# Altium integrated library Capacitor - Aluminium Polymer.IntLib: 273 symbols (part 3 of 4)
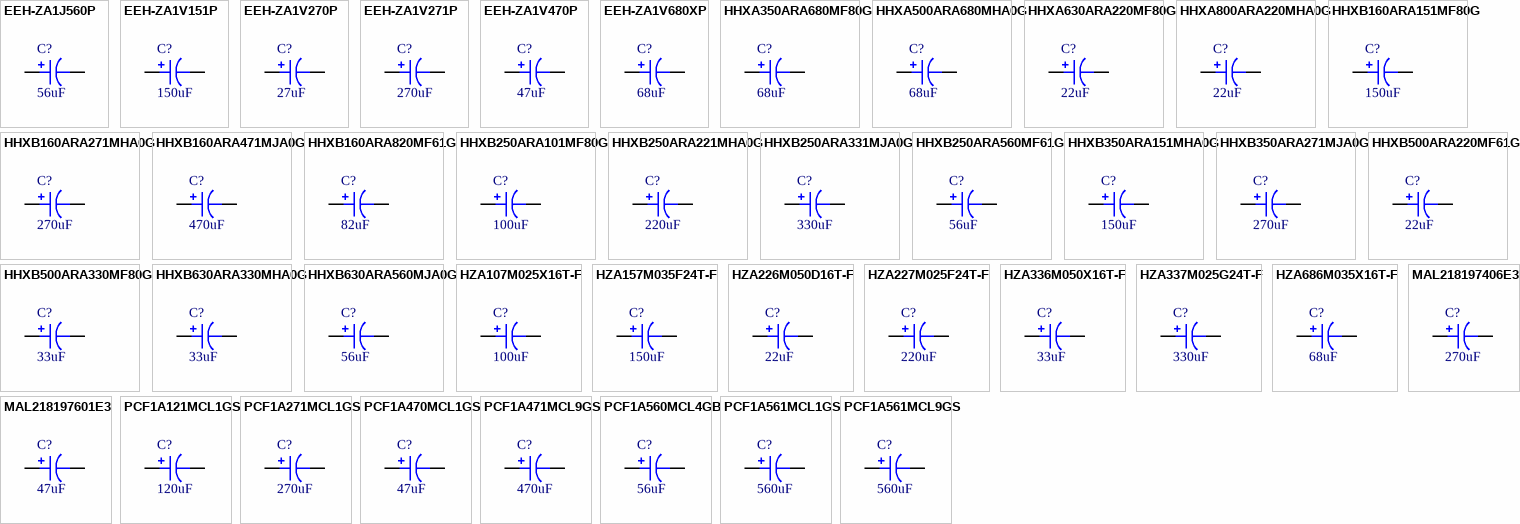
[diagram p8: symbols EEH-ZA1J560P to PCF1A561MCL9GS]

## HHXB250ARA331MJA0G
designator C?, comment 330uF
CAP POLYMER 330UF 20% 25V SMD; Part Number: HHXB250ARA331MJA0G; Manufacturer: United Chemi-Con; TemperatureRange: -55C ~ 105C; Type: General Purpose; Ripple Current: 2.5A; Lifetime @ Temp: 5000 Hrs @ 105C; Value: 330uF; PartId: 7726; Supplier 1: Digi-Key; Supplier Part Number 1: 565-4181-2-ND; ComponentLink1Description: Datasheet; ComponentLink1URL: http://www.chemi-con.co.jp/cgi-bin/CAT_DB/SEARCH/cat_db_al.cgi?e=e&j=p&pdfname=hxb; ComponentLink2Description: Digi-Key listing; ComponentLink2URL: http://digikey.com/product-detail/en/HHXB250ARA331MJA0G/565-4181-2-ND/4847422; Tolerance: 20%; Voltage: 25V; Price: 1.751; Device Package: Radial, Can - SMD; Impedance: -
footprint CAP ALUM 10.3MM
pins: 1, 2

## HHXB250ARA560MF61G
designator C?, comment 56uF
CAP POLYMER HYB 56UF 20% 25V SMD; Part Number: HHXB250ARA560MF61G; Manufacturer: United Chemi-Con; TemperatureRange: -55C ~ 105C; Type: General Purpose; Ripple Current: 1.3A; Lifetime @ Temp: 5000 Hrs @ 105C; Value: 56uF; PartId: 7521; Supplier 1: Digi-Key; Supplier Part Number 1: 565-4182-2-ND; ComponentLink1Description: Datasheet; ComponentLink1URL: http://www.chemi-con.co.jp/cgi-bin/CAT_DB/SEARCH/cat_db_al.cgi?e=e&j=p&pdfname=hxb; ComponentLink2Description: Digi-Key listing; ComponentLink2URL: http://digikey.com/product-detail/en/HHXB250ARA560MF61G/565-4182-2-ND/4847419; Tolerance: 20%; Voltage: 25V; Price: 0.6196; Device Package: Radial, Can - SMD; Impedance: -
footprint CAP ALUM 6.6MM
pins: 1, 2

## HHXB350ARA151MHA0G
designator C?, comment 150uF
CAP POLYMER 150UF 20% 35V SMD; Part Number: HHXB350ARA151MHA0G; Manufacturer: United Chemi-Con; TemperatureRange: -55C ~ 105C; Type: General Purpose; Ripple Current: 2.3A; Lifetime @ Temp: 5000 Hrs @ 105C; Value: 150uF; PartId: 7626; Supplier 1: Digi-Key; Supplier Part Number 1: 565-4183-2-ND; ComponentLink1Description: Datasheet; ComponentLink1URL: http://www.chemi-con.co.jp/cgi-bin/CAT_DB/SEARCH/cat_db_al.cgi?e=e&j=p&pdfname=hxb; ComponentLink2Description: Digi-Key listing; ComponentLink2URL: http://digikey.com/product-detail/en/HHXB350ARA151MHA0G/565-4183-2-ND/4847425; Tolerance: 20%; Voltage: 35V; Price: 1.4114; Device Package: Radial, Can - SMD; Impedance: -
footprint CAP ALUM 8.3MM
pins: 1, 2

## HHXB350ARA271MJA0G
designator C?, comment 270uF
CAP POLYMER 270UF 20% 35V SMD; Part Number: HHXB350ARA271MJA0G; Manufacturer: United Chemi-Con; TemperatureRange: -55C ~ 105C; Type: General Purpose; Ripple Current: 2.5A; Lifetime @ Temp: 5000 Hrs @ 105C; Value: 270uF; PartId: 7723; Supplier 1: Digi-Key; Supplier Part Number 1: 565-4184-2-ND; ComponentLink1Description: Datasheet; ComponentLink1URL: http://www.chemi-con.co.jp/cgi-bin/CAT_DB/SEARCH/cat_db_al.cgi?e=e&j=p&pdfname=hxb; ComponentLink2Description: Digi-Key listing; ComponentLink2URL: http://digikey.com/product-detail/en/HHXB350ARA271MJA0G/565-4184-2-ND/4847426; Tolerance: 20%; Voltage: 35V; Price: 1.751; Device Package: Radial, Can - SMD; Impedance: -
footprint CAP ALUM 10.3MM
pins: 1, 2

## HHXB500ARA220MF61G
designator C?, comment 22uF
CAP POLYMER HYB 22UF 20% 50V SMD; Part Number: HHXB500ARA220MF61G; Manufacturer: United Chemi-Con; TemperatureRange: -55C ~ 105C; Type: General Purpose; Ripple Current: 1.1A; Lifetime @ Temp: 5000 Hrs @ 105C; Value: 22uF; PartId: 7522; Supplier 1: Digi-Key; Supplier Part Number 1: 565-4188-2-ND; ComponentLink1Description: Datasheet; ComponentLink1URL: http://www.chemi-con.co.jp/cgi-bin/CAT_DB/SEARCH/cat_db_al.cgi?e=e&j=p&pdfname=hxb; ComponentLink2Description: Digi-Key listing; ComponentLink2URL: http://digikey.com/product-detail/en/HHXB500ARA220MF61G/565-4188-2-ND/4847427; Tolerance: 20%; Voltage: 50V; Price: 0.6196; Device Package: Radial, Can - SMD; Impedance: -
footprint CAP ALUM 6.6MM
pins: 1, 2

## HHXB500ARA330MF80G
designator C?, comment 33uF
CAP POLYMER HYB 33UF 20% 50V SMD; Part Number: HHXB500ARA330MF80G; Manufacturer: United Chemi-Con; TemperatureRange: -55C ~ 105C; Type: General Purpose; Ripple Current: 1.6A; Lifetime @ Temp: 5000 Hrs @ 105C; Value: 33uF; PartId: 7536; Supplier 1: Digi-Key; Supplier Part Number 1: 565-4189-2-ND; ComponentLink1Description: Datasheet; ComponentLink1URL: http://www.chemi-con.co.jp/cgi-bin/CAT_DB/SEARCH/cat_db_al.cgi?e=e&j=p&pdfname=hxb; ComponentLink2Description: Digi-Key listing; ComponentLink2URL: http://digikey.com/product-detail/en/HHXB500ARA330MF80G/565-4189-2-ND/4847428; Tolerance: 20%; Voltage: 50V; Price: 0.7872; Device Package: Radial, Can - SMD; Impedance: -
footprint CAP ALUM 6.6MM
pins: 1, 2

## HHXB630ARA330MHA0G
designator C?, comment 33uF
CAP POLYMER HYB 33UF 20% 63V SMD; Part Number: HHXB630ARA330MHA0G; Manufacturer: United Chemi-Con; TemperatureRange: -55C ~ 105C; Type: General Purpose; Ripple Current: 1.6A; Lifetime @ Temp: 5000 Hrs @ 105C; Value: 33uF; PartId: 7628; Supplier 1: Digi-Key; Supplier Part Number 1: 565-4193-2-ND; ComponentLink1Description: Datasheet; ComponentLink1URL: http://www.chemi-con.co.jp/cgi-bin/CAT_DB/SEARCH/cat_db_al.cgi?e=e&j=p&pdfname=hxb; ComponentLink2Description: Digi-Key listing; ComponentLink2URL: http://digikey.com/product-detail/en/HHXB630ARA330MHA0G/565-4193-2-ND/4847433; Tolerance: 20%; Voltage: 63V; Price: 1.4114; Device Package: Radial, Can - SMD; Impedance: -
footprint CAP ALUM 8.3MM
pins: 1, 2

## HHXB630ARA560MJA0G
designator C?, comment 56uF
CAP POLYMER HYB 56UF 20% 63V SMD; Part Number: HHXB630ARA560MJA0G; Manufacturer: United Chemi-Con; TemperatureRange: -55C ~ 105C; Type: General Purpose; Ripple Current: 1.8A; Lifetime @ Temp: 5000 Hrs @ 105C; Value: 56uF; PartId: 7724; Supplier 1: Digi-Key; Supplier Part Number 1: 565-4194-2-ND; ComponentLink1Description: Datasheet; ComponentLink1URL: http://www.chemi-con.co.jp/cgi-bin/CAT_DB/SEARCH/cat_db_al.cgi?e=e&j=p&pdfname=hxb; ComponentLink2Description: Digi-Key listing; ComponentLink2URL: http://digikey.com/product-detail/en/HHXB630ARA560MJA0G/565-4194-2-ND/4847434; Tolerance: 20%; Voltage: 63V; Price: 1.751; Device Package: Radial, Can - SMD; Impedance: -
footprint CAP ALUM 10.3MM
pins: 1, 2

## HZA107M025X16T-F
designator C?, comment 100uF
CAP POLYMER 100UF 20% 25V SMD; Part Number: HZA107M025X16T-F; Manufacturer: Cornell Dubilier Electronics (CDE); TemperatureRange: -55C ~ 105C; Type: General Purpose; Ripple Current: 220mA; Lifetime @ Temp: 10000 Hrs @ 105C; Value: 100uF; PartId: 7555; Supplier 1: Digi-Key; Supplier Part Number 1: HZA107M025X16T-FTR-ND; ComponentLink1Description: Datasheet; ComponentLink1URL: http://media.digikey.com/pdf/Data%20Sheets/Cornell%20Dubilier%20PDFs/HZA_Type.pdf; ComponentLink2Description: Digi-Key listing; ComponentLink2URL: http://digikey.com/product-detail/en/HZA107M025X16T-F/HZA107M025X16T-FTR-ND/4695416; Tolerance: 20%; Voltage: 25V; Price: 1.1833; Device Package: Radial, Can - SMD; Impedance: -
footprint CAP ALUM 6.6MM
pins: 1, 2

## HZA157M035F24T-F
designator C?, comment 150uF
CAP POLYMER 150UF 20% 35V SMD; Part Number: HZA157M035F24T-F; Manufacturer: Cornell Dubilier Electronics (CDE); TemperatureRange: -55C ~ 105C; Type: General Purpose; Ripple Current: 2.3A; Lifetime @ Temp: 10000 Hrs @ 105C; Value: 150uF; PartId: 7641; Supplier 1: Digi-Key; Supplier Part Number 1: HZA157M035F24T-FTR-ND; ComponentLink1Description: Datasheet; ComponentLink1URL: http://media.digikey.com/pdf/Data%20Sheets/Cornell%20Dubilier%20PDFs/HZA_Type.pdf; ComponentLink2Description: Digi-Key listing; ComponentLink2URL: http://digikey.com/product-detail/en/HZA157M035F24T-F/HZA157M035F24T-FTR-ND/4695421; Tolerance: 20%; Voltage: 35V; Price: 1.7441; Device Package: Radial, Can - SMD; Impedance: -
footprint CAP ALUM 8.3MM
pins: 1, 2

## HZA226M050D16T-F
designator C?, comment 22uF
CAP POLYMER 22UF 20% 50V SMD; Part Number: HZA226M050D16T-F; Manufacturer: Cornell Dubilier Electronics (CDE); TemperatureRange: -55C ~ 105C; Type: General Purpose; Ripple Current: 110mA; Lifetime @ Temp: 10000 Hrs @ 105C; Value: 22uF; PartId: 7543; Supplier 1: Digi-Key; Supplier Part Number 1: HZA226M050D16T-FTR-ND; ComponentLink1Description: Datasheet; ComponentLink1URL: http://media.digikey.com/pdf/Data%20Sheets/Cornell%20Dubilier%20PDFs/HZA_Type.pdf; ComponentLink2Description: Digi-Key listing; ComponentLink2URL: http://digikey.com/product-detail/en/HZA226M050D16T-F/HZA226M050D16T-FTR-ND/4695424; Tolerance: 20%; Voltage: 50V; Price: 0.8821; Device Package: Radial, Can - SMD; Impedance: -
footprint CAP ALUM 6.6MM
pins: 1, 2

## HZA227M025F24T-F
designator C?, comment 220uF
CAP POLYMER 220UF 20% 25V SMD; Part Number: HZA227M025F24T-F; Manufacturer: Cornell Dubilier Electronics (CDE); TemperatureRange: -55C ~ 105C; Type: General Purpose; Ripple Current: 2.3A; Lifetime @ Temp: 10000 Hrs @ 105C; Value: 220uF; PartId: 7642; Supplier 1: Digi-Key; Supplier Part Number 1: HZA227M025F24T-FTR-ND; ComponentLink1Description: Datasheet; ComponentLink1URL: http://media.digikey.com/pdf/Data%20Sheets/Cornell%20Dubilier%20PDFs/HZA_Type.pdf; ComponentLink2Description: Digi-Key listing; ComponentLink2URL: http://digikey.com/product-detail/en/HZA227M025F24T-F/HZA227M025F24T-FTR-ND/4695417; Tolerance: 20%; Voltage: 25V; Price: 1.7441; Device Package: Radial, Can - SMD; Impedance: -
footprint CAP ALUM 8.3MM
pins: 1, 2

## HZA336M050X16T-F
designator C?, comment 33uF
CAP POLYMER 33UF 20% 50V SMD; Part Number: HZA336M050X16T-F; Manufacturer: Cornell Dubilier Electronics (CDE); TemperatureRange: -55C ~ 105C; Type: General Purpose; Ripple Current: 160mA; Lifetime @ Temp: 10000 Hrs @ 105C; Value: 33uF; PartId: 7557; Supplier 1: Digi-Key; Supplier Part Number 1: HZA336M050X16T-FTR-ND; ComponentLink1Description: Datasheet; ComponentLink1URL: http://media.digikey.com/pdf/Data%20Sheets/Cornell%20Dubilier%20PDFs/HZA_Type.pdf; ComponentLink2Description: Digi-Key listing; ComponentLink2URL: http://digikey.com/product-detail/en/HZA336M050X16T-F/HZA336M050X16T-FTR-ND/4695425; Tolerance: 20%; Voltage: 50V; Price: 1.1833; Device Package: Radial, Can - SMD; Impedance: -
footprint CAP ALUM 6.6MM
pins: 1, 2

## HZA337M025G24T-F
designator C?, comment 330uF
CAP POLYMER 330UF 20% 25V SMD; Part Number: HZA337M025G24T-F; Manufacturer: Cornell Dubilier Electronics (CDE); TemperatureRange: -55C ~ 105C; Type: General Purpose; Ripple Current: 250mA; Lifetime @ Temp: 10000 Hrs @ 105C; Value: 330uF; PartId: 7740; Supplier 1: Digi-Key; Supplier Part Number 1: HZA337M025G24T-FTR-ND; ComponentLink1Description: Datasheet; ComponentLink1URL: http://media.digikey.com/pdf/Data%20Sheets/Cornell%20Dubilier%20PDFs/HZA_Type.pdf; ComponentLink2Description: Digi-Key listing; ComponentLink2URL: http://digikey.com/product-detail/en/HZA337M025G24T-F/HZA337M025G24T-FTR-ND/4695418; Tolerance: 20%; Voltage: 25V; Price: 2.0425; Device Package: Radial, Can - SMD; Impedance: -
footprint CAP ALUM 10.3MM
pins: 1, 2

## HZA686M035X16T-F
designator C?, comment 68uF
CAP POLYMER 68UF 20% 35V SMD; Part Number: HZA686M035X16T-F; Manufacturer: Cornell Dubilier Electronics (CDE); TemperatureRange: -55C ~ 105C; Type: General Purpose; Ripple Current: 2A; Lifetime @ Temp: 10000 Hrs @ 105C; Value: 68uF; PartId: 7556; Supplier 1: Digi-Key; Supplier Part Number 1: HZA686M035X16T-FTR-ND; ComponentLink1Description: Datasheet; ComponentLink1URL: http://media.digikey.com/pdf/Data%20Sheets/Cornell%20Dubilier%20PDFs/HZA_Type.pdf; ComponentLink2Description: Digi-Key listing; ComponentLink2URL: http://digikey.com/product-detail/en/HZA686M035X16T-F/HZA686M035X16T-FTR-ND/4695420; Tolerance: 20%; Voltage: 35V; Price: 1.1833; Device Package: Radial, Can - SMD; Impedance: -
footprint CAP ALUM 6.6MM
pins: 1, 2

## MAL218197406E3
designator C?, comment 270uF
CAP POLYMER 270UF 20% 10V SMD; Part Number: MAL218197406E3; Manufacturer: Vishay BC Components; TemperatureRange: -55C ~ 105C; Type: General Purpose; Ripple Current: 3.2A; Impedance: 22 mOhm; Lifetime @ Temp: 5000 Hrs @ 105C; Value: 270uF; PartId: 7603; Supplier 1: Digi-Key; Supplier Part Number 1: 4771PHTR-ND; ComponentLink1Description: Datasheet; ComponentLink1URL: http://www.vishay.com/docs/28417/181cpl.pdf; ComponentLink2Description: Digi-Key listing; ComponentLink2URL: http://digikey.com/product-detail/en/MAL218197406E3/4771PHTR-ND/5423062; Tolerance: 20%; Voltage: 10V; Price: 1.0522; Device Package: Radial, Can - SMD
footprint CAP ALUM 8.3MM
pins: 1, 2

## MAL218197601E3
designator C?, comment 47uF
CAP POLYMER 47UF 20% 25V SMD; Part Number: MAL218197601E3; Manufacturer: Vishay BC Components; TemperatureRange: -55C ~ 105C; Type: General Purpose; Ripple Current: 1.3A; Impedance: 49 mOhm; Lifetime @ Temp: 5000 Hrs @ 105C; Value: 47uF; PartId: 7546; Supplier 1: Digi-Key; Supplier Part Number 1: 4775PHTR-ND; ComponentLink1Description: Datasheet; ComponentLink1URL: http://www.vishay.com/docs/28417/181cpl.pdf; ComponentLink2Description: Digi-Key listing; ComponentLink2URL: http://digikey.com/product-detail/en/MAL218197601E3/4775PHTR-ND/5423066; Tolerance: 20%; Voltage: 25V; Price: 0.9165; Device Package: Radial, Can - SMD
footprint CAP ALUM 6.6MM
pins: 1, 2

## PCF1A121MCL1GS
designator C?, comment 120uF
CAP POLYMER 120UF 20% 10V SMD; Part Number: PCF1A121MCL1GS; Manufacturer: Nichicon; TemperatureRange: -55C ~ 105C; Type: General Purpose; Ripple Current: 3A; Lifetime @ Temp: 2000 Hrs @ 105C; Value: 120uF; PartId: 7563; Supplier 1: Digi-Key; Supplier Part Number 1: 493-2992-2-ND; ComponentLink1Description: Datasheet; ComponentLink1URL: http://nichicon-us.com/english/products/pdfs/e-cf.pdf; ComponentLink2Description: Digi-Key listing; ComponentLink2URL: http://digikey.com/product-detail/en/PCF1A121MCL1GS/493-2992-2-ND/1136082; Tolerance: 20%; Voltage: 10V; Price: 0.6474; Device Package: Radial, Can - SMD; Impedance: -
footprint CAP ALUM 8.3MM
pins: 1, 2

## PCF1A271MCL1GS
designator C?, comment 270uF
CAP POLYMER 270UF 20% 10V SMD; Part Number: PCF1A271MCL1GS; Manufacturer: Nichicon; TemperatureRange: -55C ~ 105C; Type: General Purpose; Ripple Current: 3.6A; Lifetime @ Temp: 2000 Hrs @ 105C; Value: 270uF; PartId: 7666; Supplier 1: Digi-Key; Supplier Part Number 1: 493-2995-2-ND; ComponentLink1Description: Datasheet; ComponentLink1URL: http://nichicon-us.com/english/products/pdfs/e-cf.pdf; ComponentLink2Description: Digi-Key listing; ComponentLink2URL: http://digikey.com/product-detail/en/PCF1A271MCL1GS/493-2995-2-ND/1136085; Tolerance: 20%; Voltage: 10V; Price: 0.8929; Device Package: Radial, Can - SMD; Impedance: -
footprint CAP ALUM 10.3MM
pins: 1, 2

## PCF1A470MCL1GS
designator C?, comment 47uF
CAP POLYMER 47UF 20% 10V SMD; Part Number: PCF1A470MCL1GS; Manufacturer: Nichicon; TemperatureRange: -55C ~ 105C; Type: General Purpose; Ripple Current: 2.6A; Lifetime @ Temp: 2000 Hrs @ 105C; Value: 47uF; PartId: 7513; Supplier 1: Digi-Key; Supplier Part Number 1: 493-2990-2-ND; ComponentLink1Description: Datasheet; ComponentLink1URL: http://nichicon-us.com/english/products/pdfs/e-cf.pdf; ComponentLink2Description: Digi-Key listing; ComponentLink2URL: http://digikey.com/product-detail/en/PCF1A470MCL1GS/493-2990-2-ND/1136080; Tolerance: 20%; Voltage: 10V; Price: 0.6115; Device Package: Radial, Can - SMD; Impedance: -
footprint CAP ALUM 6.6MM
pins: 1, 2

## PCF1A471MCL9GS
designator C?, comment 470uF
CAP POLYMER 470UF 20% 10V SMD; Part Number: PCF1A471MCL9GS; Manufacturer: Nichicon; TemperatureRange: -55C ~ 105C; Type: General Purpose; Ripple Current: 5.3A; Lifetime @ Temp: 2000 Hrs @ 105C; Value: 470uF; PartId: 7672; Supplier 1: Digi-Key; Supplier Part Number 1: 493-14004-2-ND; ComponentLink1Description: Datasheet; ComponentLink1URL: http://nichicon-us.com/english/products/pdfs/e-cf.pdf; ComponentLink2Description: Digi-Key listing; ComponentLink2URL: http://digikey.com/product-detail/en/PCF1A471MCL9GS/493-14004-2-ND/4991197; Tolerance: 20%; Voltage: 10V; Price: 0.9762; Device Package: Radial, Can - SMD; Impedance: -
footprint CAP ALUM 10.3MM
pins: 1, 2

## PCF1A560MCL4GB
designator C?, comment 56uF
CAP POLYMER 56UF 20% 10V SMD; Part Number: PCF1A560MCL4GB; Manufacturer: Nichicon; TemperatureRange: -55C ~ 105C; Type: General Purpose; Ripple Current: 2.5A; Lifetime @ Temp: 2000 Hrs @ 105C; Value: 56uF; PartId: 7509; Supplier 1: Digi-Key; Supplier Part Number 1: 493-14006-2-ND; ComponentLink1Description: Datasheet; ComponentLink1URL: http://nichicon-us.com/english/products/pdfs/e-cf.pdf; ComponentLink2Description: Digi-Key listing; ComponentLink2URL: http://digikey.com/product-detail/en/PCF1A560MCL4GB/493-14006-2-ND/2549405; Tolerance: 20%; Voltage: 10V; Price: 0.6013; Device Package: Radial, Can - SMD; Impedance: -
footprint CAP ALUM 6.6MM
pins: 1, 2

## PCF1A561MCL1GS
designator C?, comment 560uF
CAP POLYMER 560UF 20% 10V SMD; Part Number: PCF1A561MCL1GS; Manufacturer: Nichicon; TemperatureRange: -55C ~ 105C; Type: General Purpose; Ripple Current: 4.8A; Lifetime @ Temp: 2000 Hrs @ 105C; Value: 560uF; PartId: 7676; Supplier 1: Digi-Key; Supplier Part Number 1: 493-2997-2-ND; ComponentLink1Description: Datasheet; ComponentLink1URL: http://nichicon-us.com/english/products/pdfs/e-cf.pdf; ComponentLink2Description: Digi-Key listing; ComponentLink2URL: http://digikey.com/product-detail/en/PCF1A561MCL1GS/493-2997-2-ND/1136087; Tolerance: 20%; Voltage: 10V; Price: 1.0358; Device Package: Radial, Can - SMD; Impedance: -
footprint CAP ALUM 10.3MM
pins: 1, 2

## PCF1A561MCL9GS
designator C?, comment 560uF
CAP POLYMER ALUM 560UF 10V SMD; Part Number: PCF1A561MCL9GS; Manufacturer: Nichicon; TemperatureRange: -55C ~ 105C; Tolerance: 20%; Type: General Purpose; Ripple Current: 5.23A; Lifetime @ Temp: 2000 Hrs @ 105C; Value: 560uF; PartId: 7698; Supplier 1: Digi-Key; Supplier Part Number 1: 493-14007-2-ND; ComponentLink1Description: Datasheet; ComponentLink1URL: http://nichicon-us.com/english/products/pdfs/e-cf.pdf; ComponentLink2Description: Digi-Key listing; ComponentLink2URL: http://digikey.com/product-detail/en/PCF1A561MCL9GS/493-14007-2-ND/2333483; Voltage: 10V; Price: 1.3159; Device Package: Radial, Can - SMD; Impedance: -
footprint CAP ALUM 10.3MM
pins: 1, 2

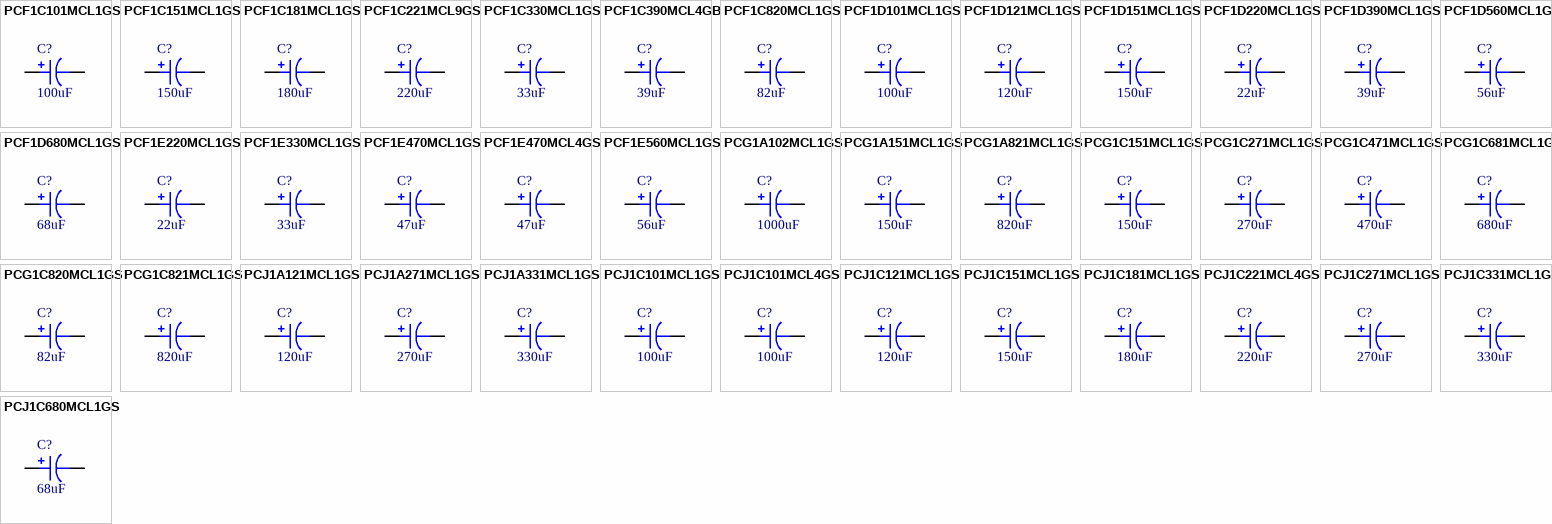
[diagram p4: symbols PCF1C101MCL1GS to PCJ1C680MCL1GS]

## PCF1C101MCL1GS
designator C?, comment 100uF
CAP POLYMER 100UF 20% 16V SMD; Part Number: PCF1C101MCL1GS; Manufacturer: Nichicon; TemperatureRange: -55C ~ 105C; Type: General Purpose; Ripple Current: 3.3A; Lifetime @ Temp: 2000 Hrs @ 105C; Value: 100uF; PartId: 7657; Supplier 1: Digi-Key; Supplier Part Number 1: 493-14009-2-ND; ComponentLink1Description: Datasheet; ComponentLink1URL: http://nichicon-us.com/english/products/pdfs/e-cf.pdf; ComponentLink2Description: Digi-Key listing; ComponentLink2URL: http://digikey.com/product-detail/en/PCF1C101MCL1GS/493-14009-2-ND/4991200; Tolerance: 20%; Voltage: 16V; Price: 0.6671; Device Package: Radial, Can - SMD; Impedance: -
footprint CAP ALUM 10.3MM
pins: 1, 2

## PCF1C151MCL1GS
designator C?, comment 150uF
CAP POLYMER 150UF 20% 16V SMD; Part Number: PCF1C151MCL1GS; Manufacturer: Nichicon; TemperatureRange: -55C ~ 105C; Type: General Purpose; Ripple Current: 3.5A; Lifetime @ Temp: 2000 Hrs @ 105C; Value: 150uF; PartId: 7664; Supplier 1: Digi-Key; Supplier Part Number 1: 493-3002-2-ND; ComponentLink1Description: Datasheet; ComponentLink1URL: http://nichicon-us.com/english/products/pdfs/e-cf.pdf; ComponentLink2Description: Digi-Key listing; ComponentLink2URL: http://digikey.com/product-detail/en/PCF1C151MCL1GS/493-3002-2-ND/1136092; Tolerance: 20%; Voltage: 16V; Price: 0.829; Device Package: Radial, Can - SMD; Impedance: -
footprint CAP ALUM 10.3MM
pins: 1, 2

## PCF1C181MCL1GS
designator C?, comment 180uF
CAP POLYMER 180UF 20% 16V SMD; Part Number: PCF1C181MCL1GS; Manufacturer: Nichicon; TemperatureRange: -55C ~ 105C; Type: General Purpose; Ripple Current: 3.6A; Lifetime @ Temp: 2000 Hrs @ 105C; Value: 180uF; PartId: 7658; Supplier 1: Digi-Key; Supplier Part Number 1: 493-14010-2-ND; ComponentLink1Description: Datasheet; ComponentLink1URL: http://nichicon-us.com/english/products/pdfs/e-cf.pdf; ComponentLink2Description: Digi-Key listing; ComponentLink2URL: http://digikey.com/product-detail/en/PCF1C181MCL1GS/493-14010-2-ND/2549406; Tolerance: 20%; Voltage: 16V; Price: 0.7256; Device Package: Radial, Can - SMD; Impedance: -
footprint CAP ALUM 10.3MM
pins: 1, 2

## PCF1C221MCL9GS
designator C?, comment 220uF
CAP POLYMER 220UF 20% 16V SMD; Part Number: PCF1C221MCL9GS; Manufacturer: Nichicon; TemperatureRange: -55C ~ 105C; Type: General Purpose; Ripple Current: 5.05A; Lifetime @ Temp: 2000 Hrs @ 105C; Value: 220uF; PartId: 7674; Supplier 1: Digi-Key; Supplier Part Number 1: 493-14013-2-ND; ComponentLink1Description: Datasheet; ComponentLink1URL: http://nichicon-us.com/english/products/pdfs/e-cf.pdf; ComponentLink2Description: Digi-Key listing; ComponentLink2URL: http://digikey.com/product-detail/en/PCF1C221MCL9GS/493-14013-2-ND/4991201; Tolerance: 20%; Voltage: 16V; Price: 0.9874; Device Package: Radial, Can - SMD; Impedance: -
footprint CAP ALUM 10.3MM
pins: 1, 2

## PCF1C330MCL1GS
designator C?, comment 33uF
CAP POLYMER 33UF 20% 16V SMD; Part Number: PCF1C330MCL1GS; Manufacturer: Nichicon; TemperatureRange: -55C ~ 105C; Type: General Purpose; Ripple Current: 2.4A; Lifetime @ Temp: 2000 Hrs @ 105C; Value: 33uF; PartId: 7523; Supplier 1: Digi-Key; Supplier Part Number 1: 493-2998-2-ND; ComponentLink1Description: Datasheet; ComponentLink1URL: http://nichicon-us.com/english/products/pdfs/e-cf.pdf; ComponentLink2Description: Digi-Key listing; ComponentLink2URL: http://digikey.com/product-detail/en/PCF1C330MCL1GS/493-2998-2-ND/1136088; Tolerance: 20%; Voltage: 16V; Price: 0.625; Device Package: Radial, Can - SMD; Impedance: -
footprint CAP ALUM 6.6MM
pins: 1, 2

## PCF1C390MCL4GB
designator C?, comment 39uF
CAP POLYMER 39UF 20% 16V SMD; Part Number: PCF1C390MCL4GB; Manufacturer: Nichicon; TemperatureRange: -55C ~ 105C; Type: General Purpose; Ripple Current: 2.4A; Lifetime @ Temp: 2000 Hrs @ 105C; Value: 39uF; PartId: 7514; Supplier 1: Digi-Key; Supplier Part Number 1: 493-14015-2-ND; ComponentLink1Description: Datasheet; ComponentLink1URL: http://nichicon-us.com/english/products/pdfs/e-cf.pdf; ComponentLink2Description: Digi-Key listing; ComponentLink2URL: http://digikey.com/product-detail/en/PCF1C390MCL4GB/493-14015-2-ND/2549410; Tolerance: 20%; Voltage: 16V; Price: 0.6132; Device Package: Radial, Can - SMD; Impedance: -
footprint CAP ALUM 6.6MM
pins: 1, 2

## PCF1C820MCL1GS
designator C?, comment 82uF
CAP POLYMER 82UF 20% 16V SMD; Part Number: PCF1C820MCL1GS; Manufacturer: Nichicon; TemperatureRange: -55C ~ 105C; Type: General Purpose; Ripple Current: 3.2A; Lifetime @ Temp: 2000 Hrs @ 105C; Value: 82uF; PartId: 7562; Supplier 1: Digi-Key; Supplier Part Number 1: 493-3001-2-ND; ComponentLink1Description: Datasheet; ComponentLink1URL: http://nichicon-us.com/english/products/pdfs/e-cf.pdf; ComponentLink2Description: Digi-Key listing; ComponentLink2URL: http://digikey.com/product-detail/en/PCF1C820MCL1GS/493-3001-2-ND/1136091; Tolerance: 20%; Voltage: 16V; Price: 0.5762; Device Package: Radial, Can - SMD; Impedance: -
footprint CAP ALUM 8.3MM
pins: 1, 2

## PCF1D101MCL1GS
designator C?, comment 100uF
CAP POLYMER 100UF 20% 20V SMD; Part Number: PCF1D101MCL1GS; Manufacturer: Nichicon; TemperatureRange: -55C ~ 105C; Type: General Purpose; Ripple Current: 3.2A; Lifetime @ Temp: 2000 Hrs @ 105C; Value: 100uF; PartId: 7610; Supplier 1: Digi-Key; Supplier Part Number 1: 493-14018-2-ND; ComponentLink1Description: Datasheet; ComponentLink1URL: http://nichicon-us.com/english/products/pdfs/e-cf.pdf; ComponentLink2Description: Digi-Key listing; ComponentLink2URL: http://digikey.com/product-detail/en/PCF1D101MCL1GS/493-14018-2-ND/2549411; Tolerance: 20%; Voltage: 20V; Price: 1.1082; Device Package: Radial, Can - SMD; Impedance: -
footprint CAP ALUM 8.3MM
pins: 1, 2

## PCF1D121MCL1GS
designator C?, comment 120uF
CAP POLYMER 120UF 20% 20V SMD; Part Number: PCF1D121MCL1GS; Manufacturer: Nichicon; TemperatureRange: -55C ~ 105C; Type: General Purpose; Ripple Current: 2.8A; Lifetime @ Temp: 2000 Hrs @ 105C; Value: 120uF; PartId: 7677; Supplier 1: Digi-Key; Supplier Part Number 1: 493-14019-2-ND; ComponentLink1Description: Datasheet; ComponentLink1URL: http://nichicon-us.com/english/products/pdfs/e-cf.pdf; ComponentLink2Description: Digi-Key listing; ComponentLink2URL: http://digikey.com/product-detail/en/PCF1D121MCL1GS/493-14019-2-ND/2549412; Tolerance: 20%; Voltage: 20V; Price: 1.0373; Device Package: Radial, Can - SMD; Impedance: -
footprint CAP ALUM 10.3MM
pins: 1, 2

## PCF1D151MCL1GS
designator C?, comment 150uF
CAP POLYMER 150UF 20% 20V SMD; Part Number: PCF1D151MCL1GS; Manufacturer: Nichicon; TemperatureRange: -55C ~ 105C; Type: General Purpose; Ripple Current: 4.32A; Lifetime @ Temp: 2000 Hrs @ 105C; Value: 150uF; PartId: 7705; Supplier 1: Digi-Key; Supplier Part Number 1: 493-11066-2-ND; ComponentLink1Description: Datasheet; ComponentLink1URL: http://nichicon-us.com/english/products/pdfs/e-cf.pdf; ComponentLink2Description: Digi-Key listing; ComponentLink2URL: http://digikey.com/product-detail/en/PCF1D151MCL1GS/493-11066-2-ND/2549413; Tolerance: 20%; Voltage: 20V; Price: 1.4171; Device Package: Radial, Can - SMD; Impedance: -
footprint CAP ALUM 10.3MM
pins: 1, 2

## PCF1D220MCL1GS
designator C?, comment 22uF
CAP POLYMER 22UF 20% 20V SMD; Part Number: PCF1D220MCL1GS; Manufacturer: Nichicon; TemperatureRange: -55C ~ 105C; Type: General Purpose; Ripple Current: 1.7A; Lifetime @ Temp: 2000 Hrs @ 105C; Value: 22uF; PartId: 7492; Supplier 1: Digi-Key; Supplier Part Number 1: 493-14020-2-ND; ComponentLink1Description: Datasheet; ComponentLink1URL: http://nichicon-us.com/english/products/pdfs/e-cf.pdf; ComponentLink2Description: Digi-Key listing; ComponentLink2URL: http://digikey.com/product-detail/en/PCF1D220MCL1GS/493-14020-2-ND/2549414; Tolerance: 20%; Voltage: 20V; Price: 0.5313; Device Package: Radial, Can - SMD; Impedance: -
footprint CAP ALUM 6.6MM
pins: 1, 2

## PCF1D390MCL1GS
designator C?, comment 39uF
CAP POLYMER 39UF 20% 20V SMD; Part Number: PCF1D390MCL1GS; Manufacturer: Nichicon; TemperatureRange: -55C ~ 105C; Type: General Purpose; Ripple Current: 2A; Lifetime @ Temp: 2000 Hrs @ 105C; Value: 39uF; PartId: 7564; Supplier 1: Digi-Key; Supplier Part Number 1: 493-14022-2-ND; ComponentLink1Description: Datasheet; ComponentLink1URL: http://nichicon-us.com/english/products/pdfs/e-cf.pdf; ComponentLink2Description: Digi-Key listing; ComponentLink2URL: http://digikey.com/product-detail/en/PCF1D390MCL1GS/493-14022-2-ND/2549416; Tolerance: 20%; Voltage: 20V; Price: 0.6904; Device Package: Radial, Can - SMD; Impedance: -
footprint CAP ALUM 8.3MM
pins: 1, 2

## PCF1D560MCL1GS
designator C?, comment 56uF
CAP POLYMER 56UF 20% 20V SMD; Part Number: PCF1D560MCL1GS; Manufacturer: Nichicon; TemperatureRange: -55C ~ 105C; Type: General Purpose; Ripple Current: 2.4A; Lifetime @ Temp: 2000 Hrs @ 105C; Value: 56uF; PartId: 7662; Supplier 1: Digi-Key; Supplier Part Number 1: 493-14024-2-ND; ComponentLink1Description: Datasheet; ComponentLink1URL: http://nichicon-us.com/english/products/pdfs/e-cf.pdf; ComponentLink2Description: Digi-Key listing; ComponentLink2URL: http://digikey.com/product-detail/en/PCF1D560MCL1GS/493-14024-2-ND/2549418; Tolerance: 20%; Voltage: 20V; Price: 0.7995; Device Package: Radial, Can - SMD; Impedance: -
footprint CAP ALUM 10.3MM
pins: 1, 2

## PCF1D680MCL1GS
designator C?, comment 68uF
CAP POLYMER 68UF 20% 20V SMD; Part Number: PCF1D680MCL1GS; Manufacturer: Nichicon; TemperatureRange: -55C ~ 105C; Type: General Purpose; Ripple Current: 2.6A; Lifetime @ Temp: 2000 Hrs @ 105C; Value: 68uF; PartId: 7665; Supplier 1: Digi-Key; Supplier Part Number 1: 493-14025-2-ND; ComponentLink1Description: Datasheet; ComponentLink1URL: http://nichicon-us.com/english/products/pdfs/e-cf.pdf; ComponentLink2Description: Digi-Key listing; ComponentLink2URL: http://digikey.com/product-detail/en/PCF1D680MCL1GS/493-14025-2-ND/2549419; Tolerance: 20%; Voltage: 20V; Price: 0.8861; Device Package: Radial, Can - SMD; Impedance: -
footprint CAP ALUM 10.3MM
pins: 1, 2

## PCF1E220MCL1GS
designator C?, comment 22uF
CAP POLYMER 22UF 20% 25V SMD; Part Number: PCF1E220MCL1GS; Manufacturer: Nichicon; TemperatureRange: -55C ~ 105C; Type: General Purpose; Ripple Current: 2.2A; Lifetime @ Temp: 2000 Hrs @ 105C; Value: 22uF; PartId: 7660; Supplier 1: Digi-Key; Supplier Part Number 1: 493-14028-2-ND; ComponentLink1Description: Datasheet; ComponentLink1URL: http://nichicon-us.com/english/products/pdfs/e-cf.pdf; ComponentLink2Description: Digi-Key listing; ComponentLink2URL: http://digikey.com/product-detail/en/PCF1E220MCL1GS/493-14028-2-ND/2549422; Tolerance: 20%; Voltage: 25V; Price: 0.7552; Device Package: Radial, Can - SMD; Impedance: -
footprint CAP ALUM 10.3MM
pins: 1, 2

## PCF1E330MCL1GS
designator C?, comment 33uF
CAP POLYMER 33UF 20% 25V SMD; Part Number: PCF1E330MCL1GS; Manufacturer: Nichicon; TemperatureRange: -55C ~ 105C; Type: General Purpose; Ripple Current: 2.8A; Lifetime @ Temp: 2000 Hrs @ 105C; Value: 33uF; PartId: 7593; Supplier 1: Digi-Key; Supplier Part Number 1: 493-14029-2-ND; ComponentLink1Description: Datasheet; ComponentLink1URL: http://nichicon-us.com/english/products/pdfs/e-cf.pdf; ComponentLink2Description: Digi-Key listing; ComponentLink2URL: http://digikey.com/product-detail/en/PCF1E330MCL1GS/493-14029-2-ND/2549423; Tolerance: 20%; Voltage: 25V; Price: 0.9206; Device Package: Radial, Can - SMD; Impedance: -
footprint CAP ALUM 8.3MM
pins: 1, 2

## PCF1E470MCL1GS
designator C?, comment 47uF
CAP POLYMER 47UF 20% 25V SMD; Part Number: PCF1E470MCL1GS; Manufacturer: Nichicon; TemperatureRange: -55C ~ 105C; Type: General Purpose; Ripple Current: 2.4A; Lifetime @ Temp: 2000 Hrs @ 105C; Value: 47uF; PartId: 7675; Supplier 1: Digi-Key; Supplier Part Number 1: 493-13412-2-ND; ComponentLink1Description: Datasheet; ComponentLink1URL: http://nichicon-us.com/english/products/pdfs/e-cf.pdf; ComponentLink2Description: Digi-Key listing; ComponentLink2URL: http://digikey.com/product-detail/en/PCF1E470MCL1GS/493-13412-2-ND/2549424; Tolerance: 20%; Voltage: 25V; Price: 1.0122; Device Package: Radial, Can - SMD; Impedance: -
footprint CAP ALUM 10.3MM
pins: 1, 2

## PCF1E470MCL4GS
designator C?, comment 47uF
CAP POLYMER 47UF 20% 25V SMD; Part Number: PCF1E470MCL4GS; Manufacturer: Nichicon; TemperatureRange: -55C ~ 105C; Type: General Purpose; Ripple Current: 3A; Lifetime @ Temp: 2000 Hrs @ 105C; Value: 47uF; PartId: 7615; Supplier 1: Digi-Key; Supplier Part Number 1: 493-14030-2-ND; ComponentLink1Description: Datasheet; ComponentLink1URL: http://nichicon-us.com/english/products/pdfs/e-cf.pdf; ComponentLink2Description: Digi-Key listing; ComponentLink2URL: http://digikey.com/product-detail/en/PCF1E470MCL4GS/493-14030-2-ND/2549425; Tolerance: 20%; Voltage: 25V; Price: 1.1601; Device Package: Radial, Can - SMD; Impedance: -
footprint CAP ALUM 8.3MM
pins: 1, 2

## PCF1E560MCL1GS
designator C?, comment 56uF
CAP POLYMER 56UF 20% 25V SMD; Part Number: PCF1E560MCL1GS; Manufacturer: Nichicon; TemperatureRange: -55C ~ 105C; Type: General Purpose; Ripple Current: 3.8A; Lifetime @ Temp: 2000 Hrs @ 105C; Value: 56uF; PartId: 7685; Supplier 1: Digi-Key; Supplier Part Number 1: 493-11065-2-ND; ComponentLink1Description: Datasheet; ComponentLink1URL: http://nichicon-us.com/english/products/pdfs/e-cf.pdf; ComponentLink2Description: Digi-Key listing; ComponentLink2URL: http://digikey.com/product-detail/en/PCF1E560MCL1GS/493-11065-2-ND/2549426; Tolerance: 20%; Voltage: 25V; Price: 1.1908; Device Package: Radial, Can - SMD; Impedance: -
footprint CAP ALUM 10.3MM
pins: 1, 2

## PCG1A102MCL1GS
designator C?, comment 1000uF
CAP POLYMER 1000UF 20% 10V SMD; Part Number: PCG1A102MCL1GS; Manufacturer: Nichicon; TemperatureRange: -55C ~ 105C; Ripple Current: 4.8A; Lifetime @ Temp: 2000 Hrs @ 105C; Value: 1000uF; PartId: 7707; Supplier 1: Digi-Key; Supplier Part Number 1: 493-3094-2-ND; ComponentLink1Description: Datasheet; ComponentLink1URL: http://nichicon-us.com/english/products/pdfs/e-cg.pdf; ComponentLink2Description: Digi-Key listing; ComponentLink2URL: http://digikey.com/product-detail/en/PCG1A102MCL1GS/493-3094-2-ND/1662480; Tolerance: 20%; Voltage: 10V; Price: 1.4598; Type: -; Device Package: Radial, Can - SMD; Impedance: -
footprint CAP ALUM 10.3MM
pins: 1, 2

## PCG1A151MCL1GS
designator C?, comment 150uF
CAP POLYMER 150UF 20% 10V SMD; Part Number: PCG1A151MCL1GS; Manufacturer: Nichicon; TemperatureRange: -55C ~ 105C; Ripple Current: 2.5A; Lifetime @ Temp: 2000 Hrs @ 105C; Value: 150uF; PartId: 7537; Supplier 1: Digi-Key; Supplier Part Number 1: 493-3090-2-ND; ComponentLink1Description: Datasheet; ComponentLink1URL: http://nichicon-us.com/english/products/pdfs/e-cg.pdf; ComponentLink2Description: Digi-Key listing; ComponentLink2URL: http://digikey.com/product-detail/en/PCG1A151MCL1GS/493-3090-2-ND/1662476; Tolerance: 20%; Voltage: 10V; Price: 0.7963; Type: -; Device Package: Radial, Can - SMD; Impedance: -
footprint CAP ALUM 6.6MM
pins: 1, 2

## PCG1A821MCL1GS
designator C?, comment 820uF
CAP POLYMER 820UF 20% 10V SMD; Part Number: PCG1A821MCL1GS; Manufacturer: Nichicon; TemperatureRange: -55C ~ 105C; Ripple Current: 4.3A; Lifetime @ Temp: 2000 Hrs @ 105C; Value: 820uF; PartId: 7688; Supplier 1: Digi-Key; Supplier Part Number 1: 493-3093-2-ND; ComponentLink1Description: Datasheet; ComponentLink1URL: http://nichicon-us.com/english/products/pdfs/e-cg.pdf; ComponentLink2Description: Digi-Key listing; ComponentLink2URL: http://digikey.com/product-detail/en/PCG1A821MCL1GS/493-3093-2-ND/1662479; Tolerance: 20%; Voltage: 10V; Price: 1.206; Type: -; Device Package: Radial, Can - SMD; Impedance: -
footprint CAP ALUM 10.3MM
pins: 1, 2

## PCG1C151MCL1GS
designator C?, comment 150uF
CAP POLYMER 150UF 20% 16V SMD; Part Number: PCG1C151MCL1GS; Manufacturer: Nichicon; TemperatureRange: -55C ~ 105C; Ripple Current: 2.8A; Lifetime @ Temp: 2000 Hrs @ 105C; Value: 150uF; PartId: 7596; Supplier 1: Digi-Key; Supplier Part Number 1: 493-3097-2-ND; ComponentLink1Description: Datasheet; ComponentLink1URL: http://nichicon-us.com/english/products/pdfs/e-cg.pdf; ComponentLink2Description: Digi-Key listing; ComponentLink2URL: http://digikey.com/product-detail/en/PCG1C151MCL1GS/493-3097-2-ND/1662483; Tolerance: 20%; Voltage: 16V; Price: 0.9436; Type: -; Device Package: Radial, Can - SMD; Impedance: -
footprint CAP ALUM 8.3MM
pins: 1, 2

## PCG1C271MCL1GS
designator C?, comment 270uF
CAP POLYMER 270UF 20% 16V SMD; Part Number: PCG1C271MCL1GS; Manufacturer: Nichicon; TemperatureRange: -55C ~ 105C; Ripple Current: 3.3A; Lifetime @ Temp: 2000 Hrs @ 105C; Value: 270uF; PartId: 7682; Supplier 1: Digi-Key; Supplier Part Number 1: 493-3098-2-ND; ComponentLink1Description: Datasheet; ComponentLink1URL: http://nichicon-us.com/english/products/pdfs/e-cg.pdf; ComponentLink2Description: Digi-Key listing; ComponentLink2URL: http://digikey.com/product-detail/en/PCG1C271MCL1GS/493-3098-2-ND/1662484; Tolerance: 20%; Voltage: 16V; Price: 1.1806; Type: -; Device Package: Radial, Can - SMD; Impedance: -
footprint CAP ALUM 10.3MM
pins: 1, 2

## PCG1C471MCL1GS
designator C?, comment 470uF
CAP POLYMER 470UF 20% 16V SMD; Part Number: PCG1C471MCL1GS; Manufacturer: Nichicon; TemperatureRange: -55C ~ 105C; Ripple Current: 3.7A; Lifetime @ Temp: 2000 Hrs @ 105C; Value: 470uF; PartId: 7687; Supplier 1: Digi-Key; Supplier Part Number 1: 493-3099-2-ND; ComponentLink1Description: Datasheet; ComponentLink1URL: http://nichicon-us.com/english/products/pdfs/e-cg.pdf; ComponentLink2Description: Digi-Key listing; ComponentLink2URL: http://digikey.com/product-detail/en/PCG1C471MCL1GS/493-3099-2-ND/1662485; Tolerance: 20%; Voltage: 16V; Price: 1.206; Type: -; Device Package: Radial, Can - SMD; Impedance: -
footprint CAP ALUM 10.3MM
pins: 1, 2

## PCG1C681MCL1GS
designator C?, comment 680uF
CAP POLYMER 680UF 20% 16V SMD; Part Number: PCG1C681MCL1GS; Manufacturer: Nichicon; TemperatureRange: -55C ~ 105C; Ripple Current: 4.1A; Lifetime @ Temp: 2000 Hrs @ 105C; Value: 680uF; PartId: 7706; Supplier 1: Digi-Key; Supplier Part Number 1: 493-3100-2-ND; ComponentLink1Description: Datasheet; ComponentLink1URL: http://nichicon-us.com/english/products/pdfs/e-cg.pdf; ComponentLink2Description: Digi-Key listing; ComponentLink2URL: http://digikey.com/product-detail/en/PCG1C681MCL1GS/493-3100-2-ND/1662486; Tolerance: 20%; Voltage: 16V; Price: 1.4598; Type: -; Device Package: Radial, Can - SMD; Impedance: -
footprint CAP ALUM 10.3MM
pins: 1, 2

## PCG1C820MCL1GS
designator C?, comment 82uF
CAP POLYMER 82UF 20% 16V SMD; Part Number: PCG1C820MCL1GS; Manufacturer: Nichicon; TemperatureRange: -55C ~ 105C; Ripple Current: 2.3A; Lifetime @ Temp: 2000 Hrs @ 105C; Value: 82uF; PartId: 7538; Supplier 1: Digi-Key; Supplier Part Number 1: 493-3096-2-ND; ComponentLink1Description: Datasheet; ComponentLink1URL: http://nichicon-us.com/english/products/pdfs/e-cg.pdf; ComponentLink2Description: Digi-Key listing; ComponentLink2URL: http://digikey.com/product-detail/en/PCG1C820MCL1GS/493-3096-2-ND/1662482; Tolerance: 20%; Voltage: 16V; Price: 0.7963; Type: -; Device Package: Radial, Can - SMD; Impedance: -
footprint CAP ALUM 6.6MM
pins: 1, 2

## PCG1C821MCL1GS
designator C?, comment 820uF
CAP POLYMER 820UF 20% 16V SMD; Part Number: PCG1C821MCL1GS; Manufacturer: Nichicon; TemperatureRange: -55C ~ 105C; Ripple Current: 4.2A; Lifetime @ Temp: 2000 Hrs @ 105C; Value: 820uF; PartId: 7718; Supplier 1: Digi-Key; Supplier Part Number 1: 493-4594-2-ND; ComponentLink1Description: Datasheet; ComponentLink1URL: http://nichicon-us.com/english/products/pdfs/e-cg.pdf; ComponentLink2Description: Digi-Key listing; ComponentLink2URL: http://digikey.com/product-detail/en/PCG1C821MCL1GS/493-4594-2-ND/2786820; Tolerance: 20%; Voltage: 16V; Price: 1.6802; Type: -; Device Package: Radial, Can - SMD; Impedance: -
footprint CAP ALUM 10.3MM
pins: 1, 2

## PCJ1A121MCL1GS
designator C?, comment 120uF
CAP POLYMER 120UF 20% 10V SMD; Part Number: PCJ1A121MCL1GS; Manufacturer: Nichicon; TemperatureRange: -55C ~ 105C; Type: General Purpose; Ripple Current: 2.53A; Lifetime @ Temp: 2000 Hrs @ 105C; Value: 120uF; PartId: 7531; Supplier 1: Digi-Key; Supplier Part Number 1: 493-3048-2-ND; ComponentLink1Description: Datasheet; ComponentLink1URL: http://nichicon-us.com/english/products/pdfs/e-p_cj.pdf; ComponentLink2Description: Digi-Key listing; ComponentLink2URL: http://digikey.com/product-detail/en/PCJ1A121MCL1GS/493-3048-2-ND/1662434; Tolerance: 20%; Voltage: 10V; Price: 0.7242; Device Package: Radial, Can - SMD; Impedance: -
footprint CAP ALUM 6.6MM
pins: 1, 2

## PCJ1A271MCL1GS
designator C?, comment 270uF
CAP POLYMER 270UF 20% 10V SMD; Part Number: PCJ1A271MCL1GS; Manufacturer: Nichicon; TemperatureRange: -55C ~ 105C; Type: General Purpose; Ripple Current: 3.22A; Lifetime @ Temp: 2000 Hrs @ 105C; Value: 270uF; PartId: 7591; Supplier 1: Digi-Key; Supplier Part Number 1: 493-3049-2-ND; ComponentLink1Description: Datasheet; ComponentLink1URL: http://nichicon-us.com/english/products/pdfs/e-p_cj.pdf; ComponentLink2Description: Digi-Key listing; ComponentLink2URL: http://digikey.com/product-detail/en/PCJ1A271MCL1GS/493-3049-2-ND/1662435; Tolerance: 20%; Voltage: 10V; Price: 0.898; Device Package: Radial, Can - SMD; Impedance: -
footprint CAP ALUM 8.3MM
pins: 1, 2

## PCJ1A331MCL1GS
designator C?, comment 330uF
CAP POLYMER 330UF 20% 10V SMD; Part Number: PCJ1A331MCL1GS; Manufacturer: Nichicon; TemperatureRange: -55C ~ 105C; Type: General Purpose; Ripple Current: 3.39A; Lifetime @ Temp: 2000 Hrs @ 105C; Value: 330uF; PartId: 7581; Supplier 1: Digi-Key; Supplier Part Number 1: 493-14054-2-ND; ComponentLink1Description: Datasheet; ComponentLink1URL: http://nichicon-us.com/english/products/pdfs/e-p_cj.pdf; ComponentLink2Description: Digi-Key listing; ComponentLink2URL: http://digikey.com/product-detail/en/PCJ1A331MCL1GS/493-14054-2-ND/2549449; Tolerance: 20%; Voltage: 10V; Price: 0.8383; Device Package: Radial, Can - SMD; Impedance: -
footprint CAP ALUM 8.3MM
pins: 1, 2

## PCJ1C101MCL1GS
designator C?, comment 100uF
CAP POLYMER 100UF 20% 16V SMD; Part Number: PCJ1C101MCL1GS; Manufacturer: Nichicon; TemperatureRange: -55C ~ 105C; Type: General Purpose; Ripple Current: 3.01A; Lifetime @ Temp: 2000 Hrs @ 105C; Value: 100uF; PartId: 7573; Supplier 1: Digi-Key; Supplier Part Number 1: 493-13413-2-ND; ComponentLink1Description: Datasheet; ComponentLink1URL: http://nichicon-us.com/english/products/pdfs/e-p_cj.pdf; ComponentLink2Description: Digi-Key listing; ComponentLink2URL: http://digikey.com/product-detail/en/PCJ1C101MCL1GS/493-13413-2-ND/2549452; Tolerance: 20%; Voltage: 16V; Price: 0.7242; Device Package: Radial, Can - SMD; Impedance: -
footprint CAP ALUM 8.3MM
pins: 1, 2

## PCJ1C101MCL4GS
designator C?, comment 100uF
CAP POLYMER 100UF 20% 16V SMD; Part Number: PCJ1C101MCL4GS; Manufacturer: Nichicon; TemperatureRange: -55C ~ 105C; Type: General Purpose; Ripple Current: 2.7A; Lifetime @ Temp: 2000 Hrs @ 105C; Value: 100uF; PartId: 7533; Supplier 1: Digi-Key; Supplier Part Number 1: 493-14058-2-ND; ComponentLink1Description: Datasheet; ComponentLink1URL: http://nichicon-us.com/english/products/pdfs/e-p_cj.pdf; ComponentLink2Description: Digi-Key listing; ComponentLink2URL: http://digikey.com/product-detail/en/PCJ1C101MCL4GS/493-14058-2-ND/2549453; Tolerance: 20%; Voltage: 16V; Price: 0.7525; Device Package: Radial, Can - SMD; Impedance: -
footprint CAP ALUM 6.6MM
pins: 1, 2

## PCJ1C121MCL1GS
designator C?, comment 120uF
CAP POLYMER 120UF 20% 16V SMD; Part Number: PCJ1C121MCL1GS; Manufacturer: Nichicon; TemperatureRange: -55C ~ 105C; Type: General Purpose; Ripple Current: 3.01A; Lifetime @ Temp: 2000 Hrs @ 105C; Value: 120uF; PartId: 7590; Supplier 1: Digi-Key; Supplier Part Number 1: 493-3054-2-ND; ComponentLink1Description: Datasheet; ComponentLink1URL: http://nichicon-us.com/english/products/pdfs/e-p_cj.pdf; ComponentLink2Description: Digi-Key listing; ComponentLink2URL: http://digikey.com/product-detail/en/PCJ1C121MCL1GS/493-3054-2-ND/1662440; Tolerance: 20%; Voltage: 16V; Price: 0.898; Device Package: Radial, Can - SMD; Impedance: -
footprint CAP ALUM 8.3MM
pins: 1, 2

## PCJ1C151MCL1GS
designator C?, comment 150uF
CAP POLYMER 150UF 20% 16V SMD; Part Number: PCJ1C151MCL1GS; Manufacturer: Nichicon; TemperatureRange: -55C ~ 105C; Type: General Purpose; Ripple Current: 3.15A; Lifetime @ Temp: 2000 Hrs @ 105C; Value: 150uF; PartId: 7580; Supplier 1: Digi-Key; Supplier Part Number 1: 493-14059-2-ND; ComponentLink1Description: Datasheet; ComponentLink1URL: http://nichicon-us.com/english/products/pdfs/e-p_cj.pdf; ComponentLink2Description: Digi-Key listing; ComponentLink2URL: http://digikey.com/product-detail/en/PCJ1C151MCL1GS/493-14059-2-ND/2549454; Tolerance: 20%; Voltage: 16V; Price: 0.8383; Device Package: Radial, Can - SMD; Impedance: -
footprint CAP ALUM 8.3MM
pins: 1, 2

## PCJ1C181MCL1GS
designator C?, comment 180uF
CAP POLYMER 180UF 20% 16V SMD; Part Number: PCJ1C181MCL1GS; Manufacturer: Nichicon; TemperatureRange: -55C ~ 105C; Type: General Purpose; Ripple Current: 3.89A; Lifetime @ Temp: 2000 Hrs @ 105C; Value: 180uF; PartId: 7586; Supplier 1: Digi-Key; Supplier Part Number 1: 493-14060-2-ND; ComponentLink1Description: Datasheet; ComponentLink1URL: http://nichicon-us.com/english/products/pdfs/e-p_cj.pdf; ComponentLink2Description: Digi-Key listing; ComponentLink2URL: http://digikey.com/product-detail/en/PCJ1C181MCL1GS/493-14060-2-ND/2549455; Tolerance: 20%; Voltage: 16V; Price: 0.8907; Device Package: Radial, Can - SMD; Impedance: -
footprint CAP ALUM 8.3MM
pins: 1, 2

## PCJ1C221MCL4GS
designator C?, comment 220uF
CAP POLYMER 220UF 20% 16V SMD; Part Number: PCJ1C221MCL4GS; Manufacturer: Nichicon; TemperatureRange: -55C ~ 105C; Type: General Purpose; Ripple Current: 3.89A; Lifetime @ Temp: 2000 Hrs @ 105C; Value: 220uF; PartId: 7609; Supplier 1: Digi-Key; Supplier Part Number 1: 493-14061-2-ND; ComponentLink1Description: Datasheet; ComponentLink1URL: http://nichicon-us.com/english/products/pdfs/e-p_cj.pdf; ComponentLink2Description: Digi-Key listing; ComponentLink2URL: http://digikey.com/product-detail/en/PCJ1C221MCL4GS/493-14061-2-ND/2549456; Tolerance: 20%; Voltage: 16V; Price: 1.0938; Device Package: Radial, Can - SMD; Impedance: -
footprint CAP ALUM 8.3MM
pins: 1, 2

## PCJ1C271MCL1GS
designator C?, comment 270uF
CAP POLYMER 270UF 20% 16V SMD; Part Number: PCJ1C271MCL1GS; Manufacturer: Nichicon; TemperatureRange: -55C ~ 105C; Type: General Purpose; Ripple Current: 4.07A; Lifetime @ Temp: 2000 Hrs @ 105C; Value: 270uF; PartId: 7612; Supplier 1: Digi-Key; Supplier Part Number 1: 493-14062-2-ND; ComponentLink1Description: Datasheet; ComponentLink1URL: http://nichicon-us.com/english/products/pdfs/e-p_cj.pdf; ComponentLink2Description: Digi-Key listing; ComponentLink2URL: http://digikey.com/product-detail/en/PCJ1C271MCL1GS/493-14062-2-ND/4991206; Tolerance: 20%; Voltage: 16V; Price: 1.1191; Device Package: Radial, Can - SMD; Impedance: -
footprint CAP ALUM 8.3MM
pins: 1, 2

## PCJ1C331MCL1GS
designator C?, comment 330uF
CAP POLYMER 330UF 20% 16V SMD; Part Number: PCJ1C331MCL1GS; Manufacturer: Nichicon; TemperatureRange: -55C ~ 105C; Type: General Purpose; Ripple Current: 4.35A; Lifetime @ Temp: 2000 Hrs @ 105C; Value: 330uF; PartId: 7681; Supplier 1: Digi-Key; Supplier Part Number 1: 493-3056-2-ND; ComponentLink1Description: Datasheet; ComponentLink1URL: http://nichicon-us.com/english/products/pdfs/e-p_cj.pdf; ComponentLink2Description: Digi-Key listing; ComponentLink2URL: http://digikey.com/product-detail/en/PCJ1C331MCL1GS/493-3056-2-ND/1662442; Tolerance: 20%; Voltage: 16V; Price: 1.166; Device Package: Radial, Can - SMD; Impedance: -
footprint CAP ALUM 10.3MM
pins: 1, 2

## PCJ1C680MCL1GS
designator C?, comment 68uF
CAP POLYMER 68UF 20% 16V SMD; Part Number: PCJ1C680MCL1GS; Manufacturer: Nichicon; TemperatureRange: -55C ~ 105C; Type: General Purpose; Ripple Current: 2.39A; Lifetime @ Temp: 2000 Hrs @ 105C; Value: 68uF; PartId: 7532; Supplier 1: Digi-Key; Supplier Part Number 1: 493-3053-2-ND; ComponentLink1Description: Datasheet; ComponentLink1URL: http://nichicon-us.com/english/products/pdfs/e-p_cj.pdf; ComponentLink2Description: Digi-Key listing; ComponentLink2URL: http://digikey.com/product-detail/en/PCJ1C680MCL1GS/493-3053-2-ND/1662439; Tolerance: 20%; Voltage: 16V; Price: 0.7242; Device Package: Radial, Can - SMD; Impedance: -
footprint CAP ALUM 6.6MM
pins: 1, 2

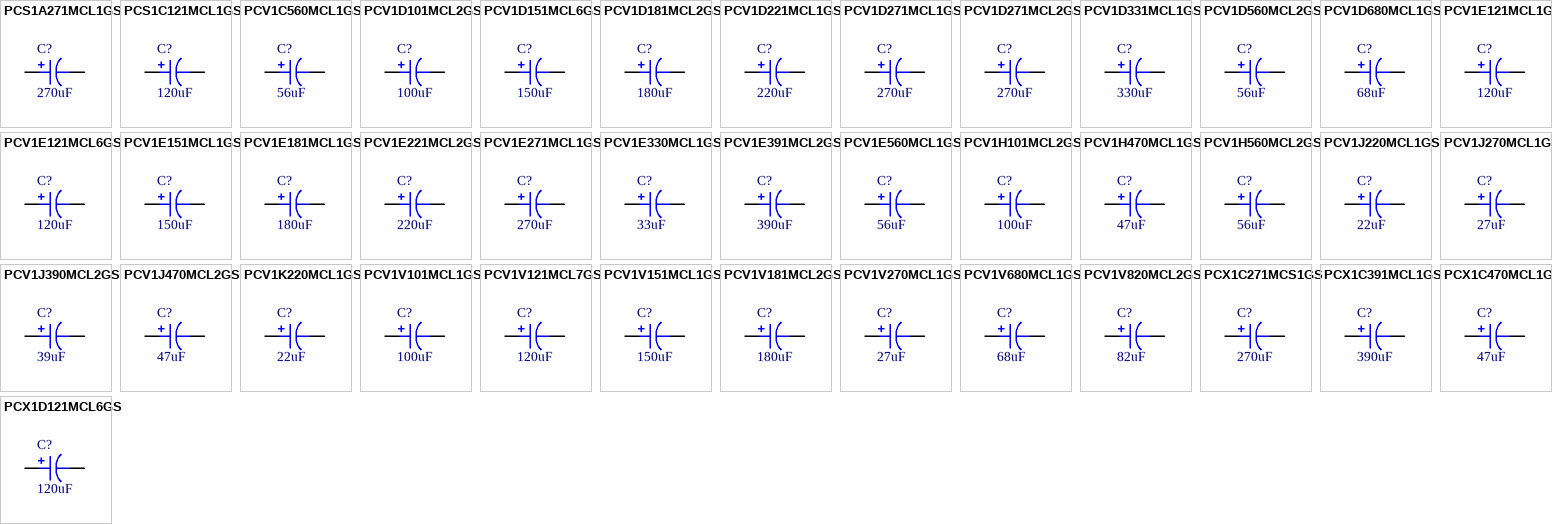
[diagram p5: symbols PCS1A271MCL1GS to PCX1D121MCL6GS]

## PCS1A271MCL1GS
designator C?, comment 270uF
CAP POLYMER 270UF 20% 10V SMD; Part Number: PCS1A271MCL1GS; Manufacturer: Nichicon; TemperatureRange: -55C ~ 105C; Ripple Current: 3.2A; Lifetime @ Temp: 5000 Hrs @ 105C; Value: 270uF; PartId: 7574; Supplier 1: Digi-Key; Supplier Part Number 1: 493-3978-2-ND; ComponentLink1Description: Datasheet; ComponentLink1URL: http://nichicon-us.com/english/products/pdfs/e-p_cs.pdf; ComponentLink2Description: Digi-Key listing; ComponentLink2URL: http://digikey.com/product-detail/en/PCS1A271MCL1GS/493-3978-2-ND/2327051; Tolerance: 20%; Voltage: 10V; Price: 0.7253; Type: -; Device Package: Radial, Can - SMD; Impedance: -
footprint CAP ALUM 8.3MM
pins: 1, 2

## PCS1C121MCL1GS
designator C?, comment 120uF
CAP POLYMER 120UF 20% 16V SMD; Part Number: PCS1C121MCL1GS; Manufacturer: Nichicon; TemperatureRange: -55C ~ 105C; Ripple Current: 2.8A; Lifetime @ Temp: 5000 Hrs @ 105C; Value: 120uF; PartId: 7568; Supplier 1: Digi-Key; Supplier Part Number 1: 493-3984-2-ND; ComponentLink1Description: Datasheet; ComponentLink1URL: http://nichicon-us.com/english/products/pdfs/e-p_cs.pdf; ComponentLink2Description: Digi-Key listing; ComponentLink2URL: http://digikey.com/product-detail/en/PCS1C121MCL1GS/493-3984-2-ND/2327057; Tolerance: 20%; Voltage: 16V; Price: 0.7199; Type: -; Device Package: Radial, Can - SMD; Impedance: -
footprint CAP ALUM 8.3MM
pins: 1, 2

## PCV1C560MCL1GS
designator C?, comment 56uF
CAP POLYMER 56UF 20% 16V SMD; Part Number: PCV1C560MCL1GS; Manufacturer: Nichicon; TemperatureRange: -55C ~ 105C; Ripple Current: 1A; Lifetime @ Temp: 3000 Hrs @ 105C; Value: 56uF; PartId: 7527; Supplier 1: Digi-Key; Supplier Part Number 1: 493-4362-2-ND; ComponentLink1Description: Datasheet; ComponentLink1URL: http://nichicon-us.com/english/products/pdfs/e-cv.pdf; ComponentLink2Description: Digi-Key listing; ComponentLink2URL: http://digikey.com/product-detail/en/PCV1C560MCL1GS/493-4362-2-ND/2618748; Tolerance: 20%; Voltage: 16V; Price: 0.6422; Type: -; Device Package: Radial, Can - SMD; Impedance: -
footprint CAP ALUM 6.6MM
pins: 1, 2

## PCV1D101MCL2GS
designator C?, comment 100uF
CAP POLYMER 100UF 20% 20V SMD; Part Number: PCV1D101MCL2GS; Manufacturer: Nichicon; TemperatureRange: -55C ~ 105C; Ripple Current: 1.4A; Lifetime @ Temp: 3000 Hrs @ 105C; Value: 100uF; PartId: 7622; Supplier 1: Digi-Key; Supplier Part Number 1: 493-4532-2-ND; ComponentLink1Description: Datasheet; ComponentLink1URL: http://nichicon-us.com/english/products/pdfs/e-cv.pdf; ComponentLink2Description: Digi-Key listing; ComponentLink2URL: http://digikey.com/product-detail/en/PCV1D101MCL2GS/493-4532-2-ND/2786758; Tolerance: 20%; Voltage: 20V; Price: 1.3635; Type: -; Device Package: Radial, Can - SMD; Impedance: -
footprint CAP ALUM 8.3MM
pins: 1, 2

## PCV1D151MCL6GS
designator C?, comment 150uF
CAP POLYMER 150UF 20% 20V SMD; Part Number: PCV1D151MCL6GS; Manufacturer: Nichicon; TemperatureRange: -55C ~ 105C; Ripple Current: 2A; Lifetime @ Temp: 3000 Hrs @ 105C; Value: 150uF; PartId: 7637; Supplier 1: Digi-Key; Supplier Part Number 1: 493-4371-2-ND; ComponentLink1Description: Datasheet; ComponentLink1URL: http://nichicon-us.com/english/products/pdfs/e-cv.pdf; ComponentLink2Description: Digi-Key listing; ComponentLink2URL: http://digikey.com/product-detail/en/PCV1D151MCL6GS/493-4371-2-ND/2618757; Tolerance: 20%; Voltage: 20V; Price: 1.6537; Type: -; Device Package: Radial, Can - SMD; Impedance: -
footprint CAP ALUM 8.3MM
pins: 1, 2